# Altium footprint library 8-Pin e-MSOP (MME).PcbLib: 1 footprints
Each footprint in its own frame and in the unit in brackets; x right, y up, seen from the top. Pads: shape width x height; smd on the part's side, far side on the other; paste and mask are expansions set on the pad; w line width, h text height; cw(c..) or ccw(c..) is an arc to the next point about the centre after c.
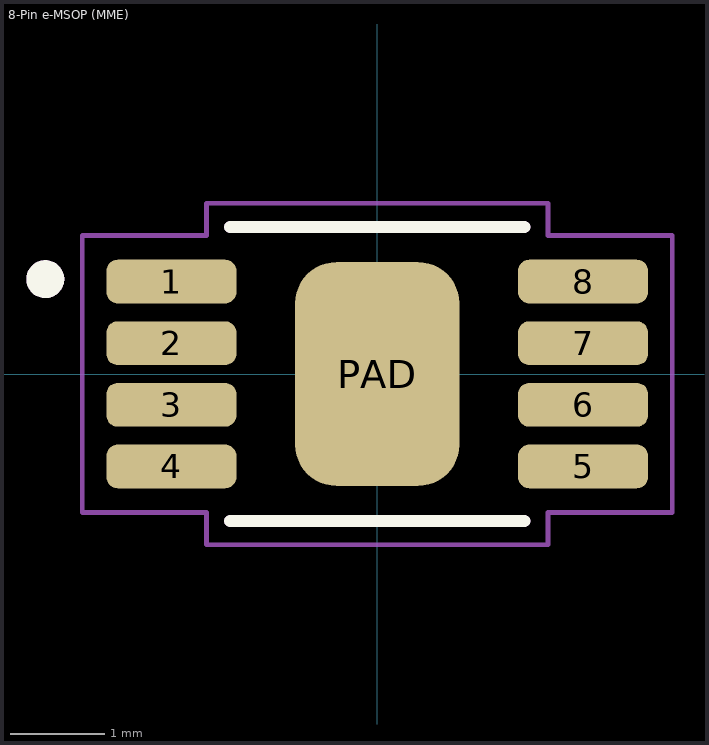
[diagram p0: the footprint, top view; thin cyan lines are the x and y axes]

## 8-Pin e-MSOP (MME) [mm]
pads (9):
  rrect50% 1.37x0.46 smd: 1(-2.17,0.975) 2(-2.17,0.325) 3(-2.17,-0.325) 4(-2.17,-0.975) 5(2.17,-0.975) 6(2.17,-0.325) 7(2.17,0.325) 8(2.17,0.975)
  rrect50% 1.73x2.36 smd: PAD(0,0)
Top Overlay:
  circle w0.2: c-3.5,1 r0.1
  lines w0.127: -1.55,-1.55 1.55,-1.55 ; -1.55,1.55 1.55,1.55
Top Paste:
  region: 0.095,0.985 0.665,0.985 0.665,0.095 0.095,0.095
  region: -0.665,0.985 -0.095,0.985 -0.095,0.095 -0.665,0.095
  region: -0.665,-0.095 -0.095,-0.095 -0.095,-0.985 -0.665,-0.985
  region: 0.095,-0.095 0.665,-0.095 0.665,-0.985 0.095,-0.985
Mechanical 4:
  circle w0.2: c-3.5,1 r0.1
  circle w0.2: c-3.5,1 r0.1
  lines w0.127: -1.55,-1.55 1.55,-1.55 -1.55,-1.55 ; -1.55,1.55 1.55,1.55 -1.55,1.55
Mechanical 15:
  lines w0.05: -3.11,-1.46 -1.8,-1.46 -1.8,-1.8 1.8,-1.8 1.8,-1.46 3.11,-1.46 3.11,1.46 1.8,1.46 1.8,1.8 -1.8,1.8 -1.8,1.46 -3.11,1.46 -3.11,-1.46
3D body "User Library-MSOP8-3.STEP": height 0.92, standoff -0.06, extent -2.43,-1.5 2.428,1.5